# Altium footprint library DG4157EDN-T1-GE4.PcbLib: 1 footprints
Each footprint in its own frame and in the unit in brackets; x right, y up, seen from the top. Pads: shape width x height; smd on the part's side, far side on the other; paste and mask are expansions set on the pad; w line width, h text height; cw(c..) or ccw(c..) is an arc to the next point about the centre after c.
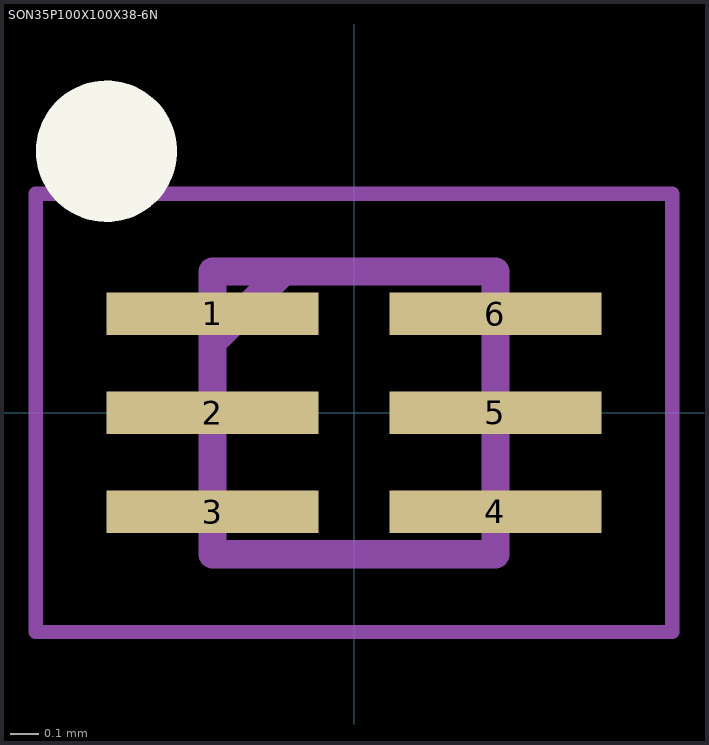
[diagram p0: the footprint, top view; thin cyan lines are the x and y axes]

## SON35P100X100X38-6N [mm]
pads (6):
  rect 0.75x0.15 smd: 1(-0.5,0.35) 2(-0.5,0) 3(-0.5,-0.35) 4(0.5,-0.35) 5(0.5,0) 6(0.5,0.35)
Top Overlay:
  circle w0.25: c-0.875,0.925 r0.125
Mechanical 13:
  lines w0.1: -0.5,0.25 -0.25,0.5 ; -0.5,-0.5 -0.5,0.5 0.5,0.5 0.5,-0.5 -0.5,-0.5
Mechanical 15:
  lines w0.05: -1.125,-0.775 -1.125,0.775 1.125,0.775 1.125,-0.775 -1.125,-0.775
3D body "DG4157EDN-T1-GE4.stp": height 0.38, standoff 0, extent -0.55,-0.5 0.55,0.5